# Altium schematic symbol library S70KL1282DPBHI020.SchLib: 1 symbol
Pins are listed as number, name and electrical type; pins without a type are passive.

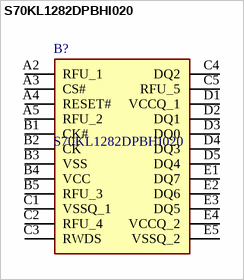
[diagram p0: symbol S70KL1282DPBHI020]

## S70KL1282DPBHI020
designator B?
DRAM HyperRAM; Manufacturer_Name: Infineon; Geometry.Height: 1mm; Mouser Part Number: 727-70KL1282DPBHI020; Mouser Price/Stock: https://www.mouser.co.uk/ProductDetail/Infineon-Technologies/S70KL1282DPBHI020?qs=DPoM0jnrROVgAEZ0o2TpIw%3D%3D; Manufacturer_Part_Number: S70KL1282DPBHI020; Datasheet Link: https://www.cypress.com/file/501841/download
footprint BGA24C100P5X5_600X800X100
pins: A2 RFU_1, A3 CS#, A4 RESET#, A5 RFU_2, B1 CK#, B2 CK, B3 VSS, B4 VCC, B5 RFU_3, C1 VSSQ_1, C2 RFU_4, C3 RWDS, C4 DQ2, C5 RFU_5, D1 VCCQ_1, D2 DQ1, D3 DQ0, D4 DQ3, D5 DQ4, E1 DQ7, E2 DQ6, E3 DQ5, E4 VCCQ_2, E5 VSSQ_2